# Altium footprint library photoelectric_sensors.PcbLib: 2 footprints
Each footprint in its own frame and in the unit in brackets; x right, y up, seen from the top. Pads: shape width x height; smd on the part's side, far side on the other; paste and mask are expansions set on the pad; w line width, h text height; cw(c..) or ccw(c..) is an arc to the next point about the centre after c.
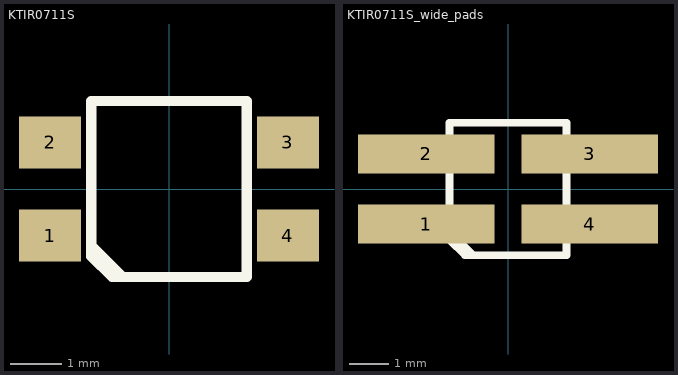
[diagram p0: the footprints below, top view; thin cyan lines are the x and y axes]

## KTIR0711S [mm]
pads (4):
  rect 1.2x1 smd: 1(-2.3,-0.9) 2(-2.3,0.9) 3(2.3,0.9) 4(2.3,-0.9)
Top Overlay:
  lines w0.2: -1.5,-1.1 -0.9,-1.7 ; -1.5,-1.3 -1.1,-1.7 1.5,-1.7 1.5,1.7 -1.5,1.7 -1.5,-1.3
3D body: height 0.65, standoff 0, extent -2.6,-1.3 -1.5,-0.5
3D body: height 0.65, standoff 0, extent 1.5,0.5 2.6,1.3
3D body: height 0.65, standoff 0, extent 1.5,-1.3 2.6,-0.5
3D body: height 0.65, standoff 0, extent -2.6,0.5 -1.5,1.3
3D body: height 1.4, standoff 0.1, extent -1.5,-1.7 1.5,1.7
3D body: height 1.5, standoff 0, extent -1.3,-1.5 1.3,-0.2
3D body: height 1.5, standoff 0, extent -1.3,0.2 1.3,1.5

## KTIR0711S_wide_pads [mm]
pads (4):
  rect 3.5x1 smd: 1(-2.1,-0.9) 2(-2.1,0.9) 3(2.1,0.9) 4(2.1,-0.9)
Top Overlay:
  lines w0.2: -1.5,-1.1 -0.9,-1.7 ; -1.5,-1.3 -1.1,-1.7 1.5,-1.7 1.5,1.7 -1.5,1.7 -1.5,-1.3
3D body: height 0.65, standoff 0, extent -2.6,-1.3 -1.5,-0.5
3D body: height 0.65, standoff 0, extent 1.5,0.5 2.6,1.3
3D body: height 0.65, standoff 0, extent 1.5,-1.3 2.6,-0.5
3D body: height 0.65, standoff 0, extent -2.6,0.5 -1.5,1.3
3D body: height 1.4, standoff 0.1, extent -1.5,-1.7 1.5,1.7
3D body: height 1.5, standoff 0, extent -1.3,-1.5 1.3,-0.2
3D body: height 1.5, standoff 0, extent -1.3,0.2 1.3,1.5